# Altium footprint library master_flying_pcb_v1.PcbLib: 19 footprints (part 2 of 2)
Each footprint in its own frame and in the unit in brackets; x right, y up, seen from the top. Pads: shape width x height; smd on the part's side, far side on the other; paste and mask are expansions set on the pad; w line width, h text height; cw(c..) or ccw(c..) is an arc to the next point about the centre after c.
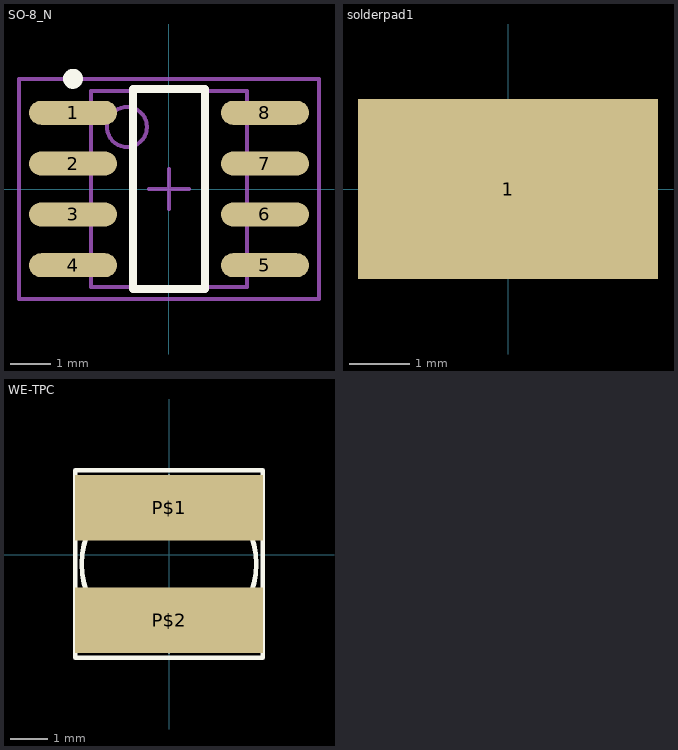
[diagram p1: the footprints below, top view; thin cyan lines are the x and y axes]

## SO-8_N [mm]
pads (8):
  oval 2.2x0.6 smd: 1(-2.4,1.905) 2(-2.4,0.635) 3(-2.4,-0.635) 4(-2.4,-1.905) 5(2.4,-1.905) 6(2.4,-0.635) 7(2.4,0.635) 8(2.4,1.905)
Top Overlay:
  circle w0.25: c-2.4,2.755 r0.125
  lines w0.2: -0.9,-2.5 -0.9,2.5 0.9,2.5 0.9,-2.5 -0.9,-2.5
Mechanical 13:
  circle w0.1: c-1.05,1.55 r0.5
  lines w0.1: -1.95,-2.45 -1.95,2.45 1.95,2.45 1.95,-2.45 -1.95,-2.45
Mechanical 15:
  lines w0.1: -0.5,0 0.5,0 ; 0,-0.5 0,0.5 ; -3.75,-2.75 -3.75,2.75 3.75,2.75 3.75,-2.75 -3.75,-2.75
3D body: height 1.75, standoff 0, extent -1.95,-2.45 1.95,2.45

## solderpad1 [mm]
height 1
pads (1):
  rect 5x3 smd: 1(0,0)

## WE-TPC [mil]
height 39.37
pads (2):
  rect 200x70 smd: P$1(0,50) P$2(0,-70)
Top Overlay:
  circle w5: c0,-10 r93
  circle w5: c0,-10 r93
  lines w5: -100,-40 -100,20 ; -100,-40 -100,-110 100,-110 100,-40 ; -100,-40 100,-40 ; -100,20 -100,90 100,90 100,20 ; -100,20 100,20 ; 100,-40 100,20
Mechanical 2:
Mechanical 4: